# Altium schematic symbol library PBH2UOANAGX.SchLib: 1 symbol
Pins are listed as number, name and electrical type; pins without a type are passive.

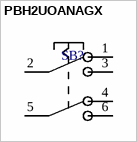
[diagram p0: symbol PBH2UOANAGX]

## PBH2UOANAGX
designator SB?
pins: 1  , 2  , 3  , 4  , 5  , 6  